# Altium integrated library Fixed Inductors.IntLib: 10 symbols
Pins are listed as number, name and electrical type; pins without a type are passive.

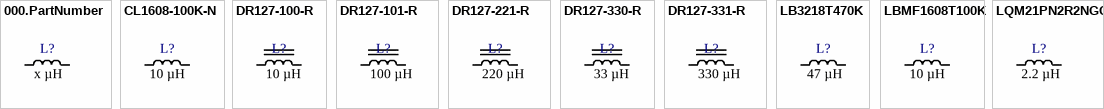
[diagram p0: symbols 000.PartNumber to LQM21PN2R2NGCD]

## 000.PartNumber
designator L?  Inductance: x µH  (hidden comment: *)
Digikey Description; Manufacturer: *; Series: *; Package: *; Type: *; Material - Core: *; Tolerance: *; Current Rating (Amps): *; Current - Saturation (Isat): *; Shielding: *; DC Resistance (DCR): *; Q @ Freq: *; Frequency - Self Resonant: *; Ratings: *; Operating Temperature: *; Inductance Frequency - Test: *; Mounting Type: *; Package / Case: *; Supplier Device Package: *; Size / Dimension: *; Height - Seated (Max): *; Ozdisan Link: *; Digikey Link: *; Farnell TR Link: *; Mouser Link: *
pins: 1, 2

## CL1608-100K-N
designator L?  Inductance: 10 µH  (hidden comment: *)
FIXED IND 10UH 15MA 2.55 OHM SMD; Manufacturer: Core Master; Type: Multilayer; Tolerance: ±10%; Shielding: Unshielded; Frequency - Self Resonant: 17MHz; Inductance Frequency - Test: 2MHz; Series: CL; Package: Tape & Reel (TR); Material - Core: -; Current - Saturation (Isat): -; DC Resistance (DCR): 2.55Ohm; Q @ Freq: -; Ratings: -; Operating Temperature: -; Mounting Type: Surface Mount; Package / Case: 0603 (1608 Metric); Supplier Device Package: 0603 (1608 Metric); Size / Dimension: 0.063"" L x 0.031"" W (1.60mm x 0.80mm); Height - Seated (Max): 0.037"" (0.95mm); Current Rating (Amps): 15mA; Ozdisan Link: https://ozdisan.com/pasif-komponentler/induktorler/sabit-induktorler/CL1608-100K-N; Digikey Link: -; Farnell TR Link: -; Mouser Link: -
footprint CORE_IND_0603
pins: 1, 2

## DR127-100-R
designator L?  Inductance: 10 µH  (hidden comment: *)
FIXED IND 10UH 6.04A 17.2 MOHM; Manufacturer: Eaton - Electronics Division; Type: Wirewound; Material - Core: Ferrite; Tolerance: ±20%; Current - Saturation (Isat): 11.2 A; Shielding: Shielded; Inductance Frequency - Test: 100 kHz; Series: DR; Package: Tape & Reel (TR); DC Resistance (DCR): 17.2 mOhm; Q @ Freq: -; Frequency - Self Resonant: -; Ratings: -; Operating Temperature: -40°C ~ 125°C; Mounting Type: Surface Mount; Package / Case: Nonstandard; Supplier Device Package: -; Size / Dimension: 0.492" L x 0.492" W (12.50mm x 12.50mm); Height - Seated (Max): 0.315" (8.00mm); Current Rating (Amps): 6.04 A; Ozdisan Link: https://ozdisan.com/pasif-komponentler/induktorler/sabit-induktorler/DR127-100-R; Digikey Link: https://www.digikey.com/en/products/detail/eaton-electronics-division/DR127-100-R/667163?s=N4IgTCBcDaICICUCMYDsBaJAGL6EgF0BfIA; Farnell TR Link: https://tr.farnell.com/eaton-coiltronics/dr127-100-r/inductor-10uh-20/dp/1463477?st=dr127-100-r; Mouser Link: https://www.mouser.com.tr/ProductDetail/Coiltronics-Eaton/DR127-100-R?qs=%2Fha2pyFadujh7x5A1eiUCOHQcCLZHbwFZuysrZ2igA9PqOoHZmCXBA%3D%3D
footprint EATON_DR127
pins: 1, 2

## DR127-101-R
designator L?  Inductance: 100 µH  (hidden comment: *)
FIXED IND 100UH 1.96A 163 MOHM; Manufacturer: Eaton - Electronics Division; Type: Wirewound; Material - Core: Ferrite; Tolerance: ±20%; Current - Saturation (Isat): 3.64 A; Shielding: Shielded; Inductance Frequency - Test: 100 kHz; Series: DR; Package: Tape & Reel (TR); DC Resistance (DCR): 163 mOhm; Q @ Freq: -; Frequency - Self Resonant: -; Ratings: -; Operating Temperature: -40°C ~ 125°C; Mounting Type: Surface Mount; Package / Case: Nonstandard; Supplier Device Package: -; Size / Dimension: 0.492" L x 0.492" W (12.50mm x 12.50mm); Height - Seated (Max): 0.315" (8.00mm); Current Rating (Amps): 1.96 A; Ozdisan Link: https://ozdisan.com/pasif-komponentler/induktorler/sabit-induktorler/DR127-101-R; Digikey Link: https://www.digikey.com/en/products/detail/eaton-electronics-division/DR127-101-R/667164?s=N4IgTCBcDaICICUCMYDsBaJAGJ6EgF0BfIA; Farnell TR Link: https://tr.farnell.com/eaton-coiltronics/dr127-101-r/inductor-100uh-20/dp/1463472?st=dr127-101-r; Mouser Link: https://www.mouser.com.tr/ProductDetail/Coiltronics-Eaton/DR127-101-R?qs=%2Fha2pyFadujh7x5A1eiUCGOVQZrk9NoLPf%2F7jiTSULOPtSU16X7iww%3D%3D
footprint EATON_DR127
pins: 1, 2

## DR127-221-R
designator L?  Inductance: 220 µH  (hidden comment: *)
FIXED IND 220UH 1.29A 376 MOHM; Manufacturer: Eaton - Electronics Division; Type: Wirewound; Material - Core: Ferrite; Tolerance: ±20%; Current - Saturation (Isat): 2.43 A; Shielding: Shielded; Inductance Frequency - Test: 100 kHz; Series: DR; Package: Tape & Reel (TR); DC Resistance (DCR): 376 mOhm; Q @ Freq: -; Frequency - Self Resonant: -; Ratings: -; Operating Temperature: -40°C ~ 125°C; Mounting Type: Surface Mount; Package / Case: Nonstandard; Supplier Device Package: -; Size / Dimension: 0.492" L x 0.492" W (12.50mm x 12.50mm); Height - Seated (Max): 0.315" (8.00mm); Current Rating (Amps): 1.29 A; Ozdisan Link: https://ozdisan.com/pasif-komponentler/induktorler/sabit-induktorler/DR127-221-R; Digikey Link: https://www.digikey.com/en/products/detail/eaton-electronics-division/DR127-221-R/667171?s=N4IgTCBcDaICICUCMYDsBaMYnoSAugL5A; Farnell TR Link: https://tr.farnell.com/eaton-coiltronics/dr127-221-r/inductor-shielded-220uh-2-43a/dp/2369123?st=dr127-221-r; Mouser Link: https://www.mouser.com.tr/ProductDetail/Coiltronics-Eaton/DR127-221-R?qs=%2Fha2pyFaduhTLnsXMX6fe8BFwpZy8LCM%252BYTa89hdn%252BzRUdWLiKBkzQ%3D%3D
footprint EATON_DR127
pins: 1, 2

## DR127-330-R
designator L?  Inductance: 33 µH  (hidden comment: *)
FIXED IND 33UH 3.23A 60 MOHM SMD; Manufacturer: Eaton - Electronics Division; Type: Wirewound; Material - Core: Ferrite; Tolerance: ±20%; Current - Saturation (Isat): 6.22 A; Shielding: Shielded; DC Resistance (DCR): 60 mOhm; Inductance Frequency - Test: 100 kHz; Series: DR; Package: Tape & Reel (TR); Q @ Freq: -; Frequency - Self Resonant: -; Ratings: -; Operating Temperature: -40°C ~ 125°C; Mounting Type: Surface Mount; Package / Case: Nonstandard; Supplier Device Package: -; Size / Dimension: 0.492" L x 0.492" W (12.50mm x 12.50mm); Height - Seated (Max): 0.315" (8.00mm); Current Rating (Amps): 3.23 A; Ozdisan Link: https://ozdisan.com/pasif-komponentler/induktorler/sabit-induktorler/DR127-330-R; Digikey Link: https://www.digikey.com/en/products/detail/eaton-electronics-division/DR127-330-R/667173?s=N4IgTCBcDaICICUCMYDsBaAzJgDOhIAugL5A; Farnell TR Link: https://tr.farnell.com/eaton-coiltronics/dr127-330-r/inductor-33uh-3a-20/dp/1463520?st=dr127-330-r; Mouser Link: https://www.mouser.com.tr/ProductDetail/Coiltronics-Eaton/DR127-330-R?qs=%2Fha2pyFadugmWP%252BEwHzj1JPXk8okc7E%2FxYcO6HZUsHJAtri13ZduEA%3D%3D
footprint EATON_DR127
pins: 1, 2

## DR127-331-R
designator L?  Inductance: 330 µH  (hidden comment: *)
FIXED IND 330UH 1.04A 574 MOHM; Manufacturer: Eaton - Electronics Division; Type: Wirewound; Material - Core: Ferrite; Tolerance: ±20%; Current - Saturation (Isat): 2.01 A; Shielding: Shielded; Inductance Frequency - Test: 100 kHz; Series: DR; Package: Tape & Reel (TR); DC Resistance (DCR): 574 mOhm; Q @ Freq: -; Frequency - Self Resonant: -; Ratings: -; Operating Temperature: -40°C ~ 125°C; Mounting Type: Surface Mount; Package / Case: Nonstandard; Supplier Device Package: -; Size / Dimension: 0.492" L x 0.492" W (12.50mm x 12.50mm); Height - Seated (Max): 0.315" (8.00mm); Current Rating (Amps): 1.04 A; Ozdisan Link: https://ozdisan.com/pasif-komponentler/induktorler/sabit-induktorler/DR127-331-R; Digikey Link: https://www.digikey.com/en/products/detail/eaton-electronics-division/DR127-331-R/667174?s=N4IgTCBcDaICICUCMYDsBaAzJp6EgF0BfIA; Farnell TR Link: https://tr.farnell.com/eaton-coiltronics/dr127-331-r/inductor-330uh-1-04a-smd/dp/2075610?st=dr127-331-r; Mouser Link: https://www.mouser.com.tr/ProductDetail/Coiltronics-Eaton/DR127-331-R?qs=%2Fha2pyFadugmWP%252BEwHzj1OiqzSOZ5EzSoouewDyBOy7ZC2vY6UCwFw%3D%3D
footprint EATON_DR127
pins: 1, 2

## LB3218T470K
designator L?  Inductance: 47 µH  (hidden comment: *)
FIXED IND 47UH 205MA 920 MOHM; Manufacturer: Taiyo Yuden; Type: Wirewound; Tolerance: ±10%; Shielding: Unshielded; Frequency - Self Resonant: 12MHz; Inductance Frequency - Test: 2.52MHz; Series: LB; Package: Tape & Reel (TR); Material - Core: -; Current - Saturation (Isat): -; DC Resistance (DCR): 920mOhm; Q @ Freq: -; Ratings: -; Operating Temperature: -40°C ~ 105°C; Mounting Type: Surface Mount; Package / Case: 1207 (3218 Metric); Supplier Device Package: 1207 (3218 Metric); Size / Dimension: 0.126"" L x 0.071"" W (3.20mm x 1.80mm); Height - Seated (Max): 0.079"" (2.00mm); Current Rating (Amps): 205mA; Ozdisan Link: https://ozdisan.com/pasif-komponentler/induktorler/sabit-induktorler/LB3218T470K; Digikey Link: https://www.digikey.com/en/products/detail/taiyo-yuden/LB3218T470K/1788929; Farnell TR Link: -; Mouser Link: https://www.mouser.com.tr/ProductDetail/Taiyo-Yuden/LB3218T470K?qs=I6KAKw0tg2y%2FHLz1evXmEg%3D%3D
footprint TAIYO_IND_1207
pins: 1, 2

## LBMF1608T100K
designator L?  Inductance: 10 µH  (hidden comment: *)
FIXED IND 10UH 80MA 360 MOHM SMD; Manufacturer: Taiyo Yuden; Type: Wirewound; Tolerance: ±10%; Shielding: Unshielded; Frequency - Self Resonant: 32MHz; Inductance Frequency - Test: 2.52MHz; Series: LB, MF Type; Package: Tape & Reel (TR); Material - Core: -; Current - Saturation (Isat): -; DC Resistance (DCR): 360mOhm; Q @ Freq: -; Ratings: -; Operating Temperature: -40°C ~ 105°C; Mounting Type: Surface Mount; Package / Case: 0603 (1608 Metric); Supplier Device Package: 0603 (1608 Metric); Size / Dimension: 0.063"" L x 0.031"" W (1.60mm x 0.80mm); Height - Seated (Max): 0.039"" (1.00mm); Current Rating (Amps): 80mA; Ozdisan Link: https://ozdisan.com/pasif-komponentler/induktorler/sabit-induktorler/LBMF1608T100K; Digikey Link: https://www.digikey.com/en/products/detail/taiyo-yuden/LBMF1608T100K/1007988?s=N4IgTCBcDaIDICECyAxAjANgAwA4AqaWWA0iALoC%2BQA; Farnell TR Link: https://tr.farnell.com/taiyo-yuden/lbmf1608t100k/inductor-10uh-10/dp/1786105?st=lbmf1608t100k; Mouser Link: https://www.mouser.com.tr/ProductDetail/Taiyo-Yuden/LBMF1608T100K?qs=%2Fha2pyFadujFwQavw4Mu1PcDpyzLtkAbjo9D1i6rXAv1gIJJh9DWQA%3D%3D
footprint TAIYO_IND_0603
pins: 1, 2

## LQM21PN2R2NGCD
designator L?  Inductance: 2.2 µH  (hidden comment: *)
FIXED IND 2.2UH 800MA 288MOHM SM; Manufacturer: Murata Electronics; Type: Multilayer; Material - Core: Ferrite; Tolerance: ±30%; Shielding: Shielded; DC Resistance (DCR): 288mOhm Max; Frequency - Self Resonant: 40 MHz; Inductance Frequency - Test: 1 MHz; Series: LQM21; Package: Tape & Reel (TR); Current Rating (Amps): 800 mA; Current - Saturation (Isat): -; Q @ Freq: -; Ratings: -; Operating Temperature: -55°C ~ 125°C; Mounting Type: Surface Mount; Package / Case: 0805 (2012 Metric); Supplier Device Package: 0805 (2012 Metric); Size / Dimension: 0.079" L x 0.049" W (2.00mm x 1.25mm); Height - Seated (Max): 0.039" (1.00mm); Ozdisan Link: https://ozdisan.com/pasif-komponentler/induktorler/sabit-induktorler/LQM21PN2R2NGCD; Digikey Link: https://www.digikey.com/en/products/detail/murata-electronics/LQM21PN2R2NGCD/4358094?s=N4IgTCBcDaIDIEUCyYCMAFAcmASmTA4gMIAiIAugL5A; Farnell TR Link: https://tr.farnell.com/murata/lqm21pn2r2ngcd/inductor-2-2uh-30-0-8a-40mhz-0805/dp/2470293?st=lqm21pn2r2ngcd; Mouser Link: https://www.mouser.com.tr/ProductDetail/Murata-Electronics/LQM21PN2R2NGCD?qs=%2Fha2pyFadujrBRh0DUiSKqf7%2FzJIbvgcZHlf%252BZJ9qFc%2FL99DRfcGbg%3D%3D
footprint MURATA_IND_0805_100
pins: 1, 2